# EAGLE library part TE-292304-1 (library keves)
USB A Female connector
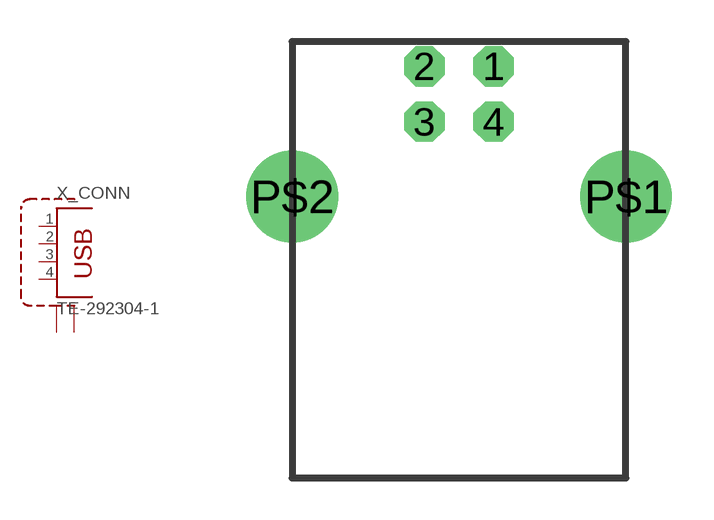
[diagram p8: symbol with the pads of TE-292304-1; footprint TE-292304-1]

Designator prefix X; gates _CONN=USB_DEVICE_B SHIELD=SHIELD2

## TE-292304-1 (MPN: 292304-1)  [TE-292304-1]
1  _CONN:1
2  _CONN:2
3  _CONN:3
4  _CONN:4
P$1  SHIELD:S1  pas
P$2  SHIELD:S2  pas

## Footprint TE-292304-1 (pad centres in mm)
BERG
drill 0.95 octagon: 1 1.25,4.71; 2 -1.25,4.71; 3 -1.25,2.71; 4 1.25,2.71
drill 2.3: P$1 6.02,0; P$2 -6.02,0